# Altium footprint library XTR117-SOP8.PcbLib: 3 footprints
Each footprint in its own frame and in the unit in brackets; x right, y up, seen from the top. Pads: shape width x height; smd on the part's side, far side on the other; paste and mask are expansions set on the pad; w line width, h text height; cw(c..) or ccw(c..) is an arc to the next point about the centre after c.
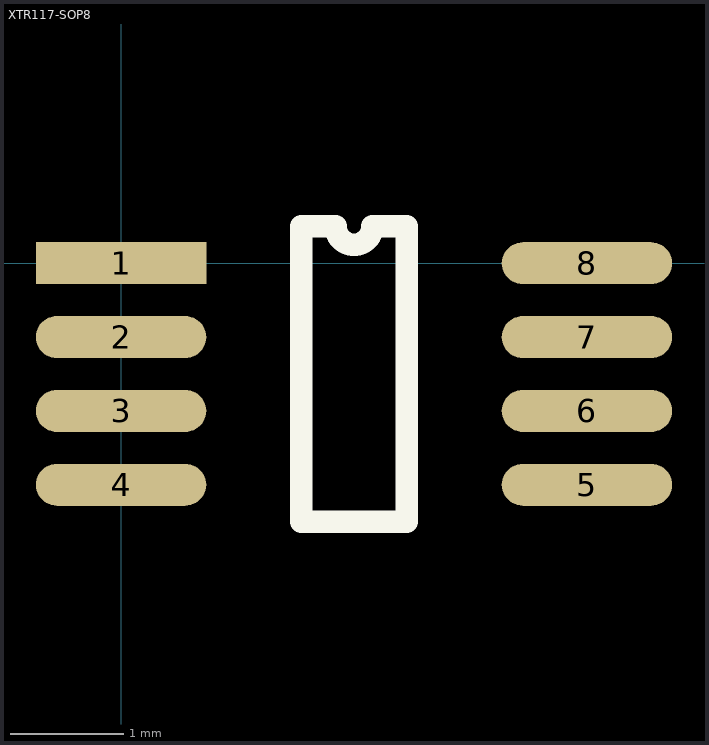
[diagram p0: the footprints below, top view; thin cyan lines are the x and y axes]

## PCBComponent_1 [mm]

## PCBComponent_1 - duplicate [mm]

## XTR117-SOP8 [mm]
pads (8):
  rect 1.5x0.37 smd: 1(0,0)
  oval 1.5x0.37 smd: 2(0,-0.65) 3(0,-1.3) 4(0,-1.95) 5(4.1,-1.95) 6(4.1,-1.3) 7(4.1,-0.65) 8(4.1,0)
Top Overlay:
  lines w0.2: 1.585,-2.275 1.585,0.325 1.887,0.325 ccw(c2.05,0.325) 2.212,0.325 2.515,0.325 2.515,-2.275 1.585,-2.275